# Altium footprint library Other.PcbLib: 22 footprints (part 2 of 2)
Each footprint in its own frame and in the unit in brackets; x right, y up, seen from the top. Pads: shape width x height; smd on the part's side, far side on the other; paste and mask are expansions set on the pad; w line width, h text height; cw(c..) or ccw(c..) is an arc to the next point about the centre after c.
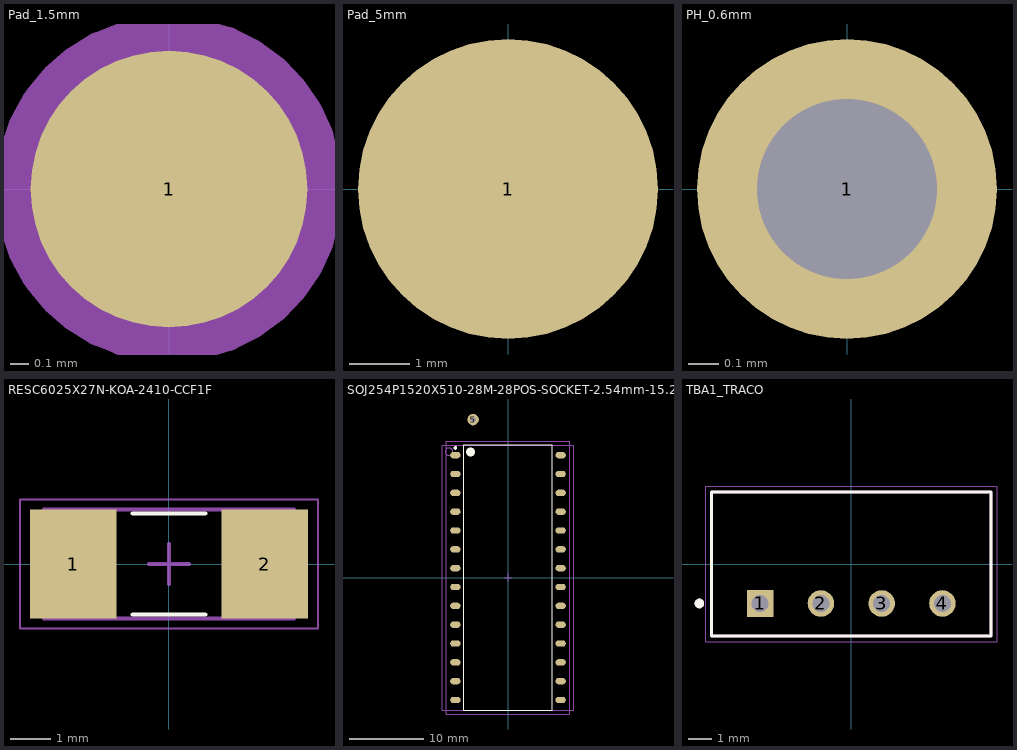
[diagram p1: the footprints below, top view; thin cyan lines are the x and y axes]

## Pad_1.5mm [mm]
pads (1):
  round 1.5 smd: 1(0,0)
Top Courtyard:
  circle w0.254: c0,0 r0.813

## Pad_5mm [mm]
pads (1):
  round 5 smd: 1(0,0)
Top Courtyard:
  circle w0.254: c0,0 r0.813

## PH_0.6mm [mm]
pads (1):
  round 1 hole 0.6: 1(0,0)

## RESC6025X27N-KOA-2410-CCF1F [mm] "Chip Resistor, 2-Leads, Body 6,00x2,50mm, IPC Medium Density"
height 2.7
pads (2):
  rect 2.15x2.7 smd: 1(-2.375,0) 2(2.375,0)
Top Overlay:
  lines w0.1: -0.9,-1.25 0.9,-1.25 ; -0.9,1.25 0.9,1.25
Top Courtyard:
  lines w0.05: -3.7,-1.6 -3.7,1.6 3.7,1.6 3.7,-1.6 -3.7,-1.6
  lines w0.1: -0.5,0 0.5,0 ; 0,-0.5 0,0.5
Top Assembly (Mech12):
  lines w0.1: -3.1,-1.35 -3.1,1.35 3.1,1.35 3.1,-1.35 -3.1,-1.35
3D body "RESC6025X27N-KOA-2410-CCF1F.step": height 2.7, standoff 0, extent -3.1,-1.35 3.1,1.35

## SOJ254P1520X510-28M-28POS-SOCKET-2.54mm-15.24mm [mm] "SOJ, 28-Leads, Body 35.76x15.24mm, Pitch 2.54mm, IPC Low Density"
height 5.1
pads (29):
  oval 1.4x0.85 all layers, no hole: 1(-7.1,16.51) 2(-7.1,13.97) 3(-7.1,11.43) 4(-7.1,8.89) 5(-7.1,6.35) 6(-7.1,3.81) 7(-7.1,1.27) 8(-7.1,-1.27) 9(-7.1,-3.81) 10(-7.1,-6.35) 11(-7.1,-8.89) 12(-7.1,-11.43) 13(-7.1,-13.97) 14(-7.1,-16.51) 15(7.1,-16.51) 16(7.1,-13.97) 17(7.1,-11.43) 18(7.1,-8.89) 19(7.1,-6.35) 20(7.1,-3.81) 21(7.1,-1.27) 22(7.1,1.27) 23(7.1,3.81) 24(7.1,6.35) 25(7.1,8.89) 26(7.1,11.43) 27(7.1,13.97) 28(7.1,16.51)
  round 1.524 hole 0.762: 5(-4.7,21.3)
Top Overlay:
  circle w0.25: c-7.1,17.485 r0.125
  circle w0.6: c-5.05,16.95 r0.3
  lines w0.1: -6,-17.9 -6,17.9 6,17.9 6,-17.9 -6,-17.9
Top Courtyard:
  lines w0.05: -8.3,-18.4 -8.3,18.4 8.3,18.4 8.3,-18.4 -8.3,-18.4
  lines w0.1: -0.5,0 0.5,0 ; 0,-0.5 0,0.5
Top Assembly (Mech12):
  circle w0.1: c-7.95,16.98 r0.5
  lines w0.1: -8.85,-17.88 -8.85,17.88 8.85,17.88 8.85,-17.88 -8.85,-17.88
3D body "SOJ254P1520X510-28M-28POS-SOCKET-2.54mm-15.24mm.step": height 5.1, standoff 0.3, extent -8.85,-17.88 8.85,17.88

## TBA1_TRACO [mm]
pads (4):
  rect 1.11x1.11 hole 0.71: 1(-3.81,-1.65)
  round 1.11 hole 0.71: 2(-1.27,-1.65) 3(1.27,-1.65) 4(3.81,-1.65)
Top Overlay:
  circle w0.2: c-6.35,-1.65 r0.1
  lines w0.127: -5.84,-3 -5.84,3 5.84,3 5.84,-3 -5.84,-3
Top Courtyard:
  lines w0.05: -6.09,-3.25 -6.09,3.25 6.09,3.25 6.09,-3.25 -6.09,-3.25
Top Assembly (Mech12):
  circle w0.2: c-6.35,-1.65 r0.1
  lines w0.1: -5.84,-3 5.839,-3 5.839,3 -5.84,3 -5.84,-3
Bottom Assembly (Mech13):
  circle w0.2: c-6.35,-1.65 r0.1
  lines w0.127: -5.84,-3 -5.84,3 5.84,3 5.84,-3 -5.84,-3
3D body "TBA 1-1212.STEP": height 10.43, standoff -2.77, extent -5.841,-3 5.839,3